# Altium footprint library COMMON-SMD.PcbLib: 31 footprints (part 1 of 2)
Each footprint in its own frame and in the unit in brackets; x right, y up, seen from the top. Pads: shape width x height; smd on the part's side, far side on the other; paste and mask are expansions set on the pad; w line width, h text height; cw(c..) or ccw(c..) is an arc to the next point about the centre after c.
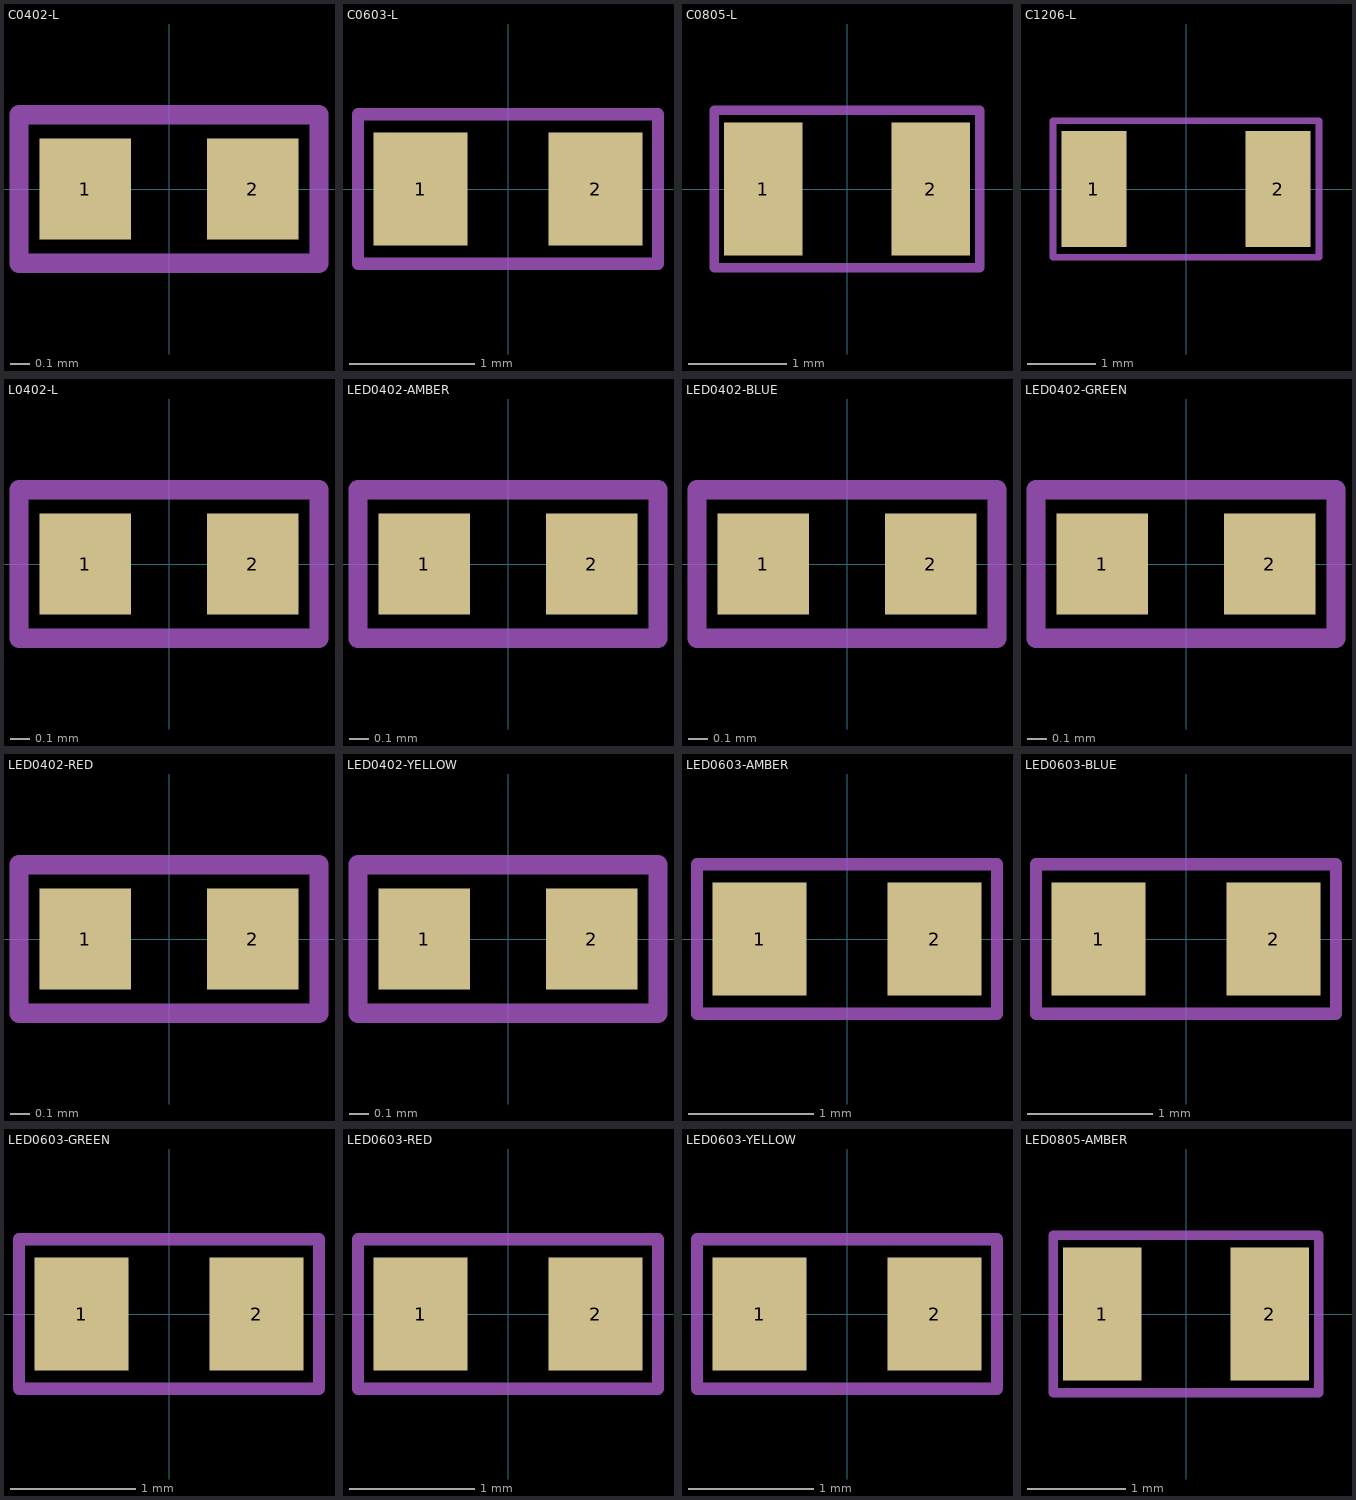
[diagram p0: the footprints below, top view; thin cyan lines are the x and y axes]

## C0402-L [mm]
pads (2):
  rect 0.47x0.52 smd: 1(-0.43,0) 2(0.43,0)
Mechanical 15 (Mech15):
  lines w0.1: -0.77,-0.38 0.77,-0.38 0.77,0.38 -0.77,0.38 -0.77,-0.38
3D body "CAP0402.stp": height 0.2, standoff 0, extent -0.5,-0.3 0.5,0.3

## C0603-L [mm]
pads (2):
  rect 0.75x0.9 smd: 1(-0.7,0) 2(0.7,0)
Mechanical 15 (Mech15):
  lines w0.1: -1.2,-0.6 1.2,-0.6 1.2,0.6 -1.2,0.6 -1.2,-0.6
3D body "CAP0603.stp": height 0.3, standoff 0, extent -0.8,-0.4 0.8,0.4

## C0805-L [mm]
pads (2):
  rect 0.8x1.35 smd: 1(-0.85,0) 2(0.85,0)
Mechanical 15 (Mech15):
  lines w0.1: -1.35,-0.8 -1.35,0.8 1.35,0.8 1.35,-0.8 -1.35,-0.8
3D body "CAP0805.stp": height 0.78, standoff 0, extent -1,-0.625 1,0.625

## C1206-L [mm]
pads (2):
  rect 0.95x1.7 smd: 1(-1.35,0) 2(1.35,0)
Mechanical 15 (Mech15):
  lines w0.1: -1.95,-1 -1.95,1 1.95,1 1.95,-1 -1.95,-1
3D body "CAP1206.stp": height 1, standoff 0, extent -1.6,-0.8 1.6,0.8

## L0402-L [mm]
pads (2):
  rect 0.47x0.52 smd: 1(-0.43,0) 2(0.43,0)
Mechanical 15 (Mech15):
  lines w0.1: -0.77,-0.38 -0.77,0.38 0.77,0.38 0.77,-0.38 -0.77,-0.38
3D body "L_0402.stp": height 0.52, standoff 0.01, extent -0.508,-0.254 0.508,0.254

## LED0402-AMBER [mm]
pads (2):
  rect 0.47x0.52 smd: 1(-0.43,0) 2(0.43,0)
Mechanical 15 (Mech15):
  lines w0.1: -0.77,-0.38 -0.77,0.38 0.77,0.38 0.77,-0.38 -0.77,-0.38
3D body "0402 Lens.step": height 0.35, standoff 0.18, extent -0.5,-0.25 0.5,0.25
3D body "0402 Amber.step": height 0.33, standoff 0, extent -0.5,-0.25 0.5,0.25

## LED0402-BLUE [mm]
pads (2):
  rect 0.47x0.52 smd: 1(-0.43,0) 2(0.43,0)
Mechanical 15 (Mech15):
  lines w0.1: -0.77,-0.38 -0.77,0.38 0.77,0.38 0.77,-0.38 -0.77,-0.38
3D body "0402 Lens.step": height 0.35, standoff 0.18, extent -0.5,-0.25 0.5,0.25
3D body "0402 Blue.step": height 0.33, standoff 0, extent -0.5,-0.25 0.5,0.25

## LED0402-GREEN [mm]
pads (2):
  rect 0.47x0.52 smd: 1(-0.43,0) 2(0.43,0)
Mechanical 15 (Mech15):
  lines w0.1: -0.77,-0.38 0.77,-0.38 0.77,0.38 -0.77,0.38 -0.77,-0.38
3D body "0402 Green.step": height 0.33, standoff 0, extent -0.5,-0.25 0.5,0.25
3D body "0402 Lens.step": height 0.35, standoff 0.18, extent -0.5,-0.25 0.5,0.25

## LED0402-RED [mm]
pads (2):
  rect 0.47x0.52 smd: 1(-0.43,0) 2(0.43,0)
Mechanical 15 (Mech15):
  lines w0.1: -0.77,-0.38 -0.77,0.38 0.77,0.38 0.77,-0.38 -0.77,-0.38
3D body "0402 Lens.step": height 0.35, standoff 0.18, extent -0.5,-0.25 0.5,0.25
3D body "0402 Red.step": height 0.33, standoff 0, extent -0.5,-0.25 0.5,0.25

## LED0402-YELLOW [mm]
pads (2):
  rect 0.47x0.52 smd: 1(-0.43,0) 2(0.43,0)
Mechanical 15 (Mech15):
  lines w0.1: -0.77,-0.38 -0.77,0.38 0.77,0.38 0.77,-0.38 -0.77,-0.38
3D body "0402 Lens.step": height 0.35, standoff 0.18, extent -0.5,-0.25 0.5,0.25
3D body "0402 Yellow.step": height 0.33, standoff 0, extent -0.5,-0.25 0.5,0.25

## LED0603-AMBER [mm]
pads (2):
  rect 0.75x0.9 smd: 1(-0.7,0) 2(0.7,0)
Mechanical 15 (Mech15):
  lines w0.1: -1.2,-0.6 1.2,-0.6 1.2,0.6 -1.2,0.6 -1.2,-0.6
3D body "0603 Lens.step": height 0.55, standoff 0.18, extent -0.55,-0.4 0.55,0.4
3D body "0603 Amber.step": height 0.5, standoff 0, extent -0.8,-0.4 0.8,0.4

## LED0603-BLUE [mm]
pads (2):
  rect 0.75x0.9 smd: 1(-0.7,0) 2(0.7,0)
Mechanical 15 (Mech15):
  lines w0.1: -1.2,-0.6 1.2,-0.6 1.2,0.6 -1.2,0.6 -1.2,-0.6
3D body "0603 Lens.step": height 0.55, standoff 0.18, extent -0.55,-0.4 0.55,0.4
3D body "0603 Blue.step": height 0.5, standoff 0, extent -0.8,-0.4 0.8,0.4

## LED0603-GREEN [mm]
pads (2):
  rect 0.75x0.9 smd: 1(-0.7,0) 2(0.7,0)
Mechanical 15 (Mech15):
  lines w0.1: -1.2,-0.6 1.2,-0.6 1.2,0.6 -1.2,0.6 -1.2,-0.6
3D body "0603 Lens.step": height 0.55, standoff 0.18, extent -0.55,-0.4 0.55,0.4
3D body "0603 Green.step": height 0.5, standoff 0, extent -0.8,-0.4 0.8,0.4

## LED0603-RED [mm]
pads (2):
  rect 0.75x0.9 smd: 1(-0.7,0) 2(0.7,0)
Mechanical 15 (Mech15):
  lines w0.1: -1.2,-0.6 1.2,-0.6 1.2,0.6 -1.2,0.6 -1.2,-0.6
3D body "0603 Lens.step": height 0.55, standoff 0.18, extent -0.55,-0.4 0.55,0.4
3D body "0603 Red.step": height 0.5, standoff 0, extent -0.8,-0.4 0.8,0.4

## LED0603-YELLOW [mm]
pads (2):
  rect 0.75x0.9 smd: 1(-0.7,0) 2(0.7,0)
Mechanical 15 (Mech15):
  lines w0.1: -1.2,-0.6 1.2,-0.6 1.2,0.6 -1.2,0.6 -1.2,-0.6
3D body "0603 Lens.step": height 0.55, standoff 0.18, extent -0.55,-0.4 0.55,0.4
3D body "0603 Yellow.step": height 0.5, standoff 0, extent -0.8,-0.4 0.8,0.4

## LED0805-AMBER [mm]
pads (2):
  rect 0.8x1.35 smd: 1(-0.85,0) 2(0.85,0)
Mechanical 15 (Mech15):
  lines w0.1: -1.35,-0.8 1.35,-0.8 1.35,0.8 -1.35,0.8 -1.35,-0.8
3D body "0805 Amber.step": height 0.73, standoff 0, extent -1,-0.625 1,0.625
3D body "0805 Lens.step": height 0.78, standoff 0.28, extent -0.55,-0.625 0.55,0.625